# EAGLE library part RJ11-6-EBAY (library m1dst)
RJ11 Jack Simple 6 pin RJ11 jack. Commonly found on CAT3 devices and Microchip programmers. SKU: PRT-00132
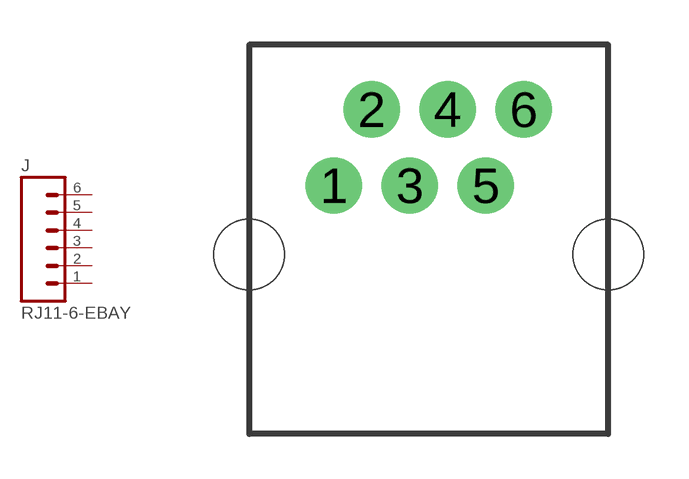
[diagram p7: symbol with the pads of RJ11-6-EBAY; footprint RJ11-6-EBAY]

Designator prefix J

## RJ11-6-EBAYPTH  [RJ11-6-EBAY]
1  1  pas
2  2  pas
3  3  pas
4  4  pas
5  5  pas
6  6  pas

## Footprint RJ11-6-EBAY (pad centres in mm)
drill 0.9 pad 1.88: 1 -3.175,2.3; 2 -1.905,4.84; 3 -0.635,2.3; 4 0.635,4.84; 5 1.905,2.3; 6 3.175,4.84
hole 2.36 at -6,0
hole 2.36 at 6,0